# EAGLE library part SPX3819S-L_TR (library SPX3819S-L_TR)
LDO Voltage Regulators 500mA LOW NOISE LDO Source: Datasheet <https://www.maxlinear.com/document?id=22106>
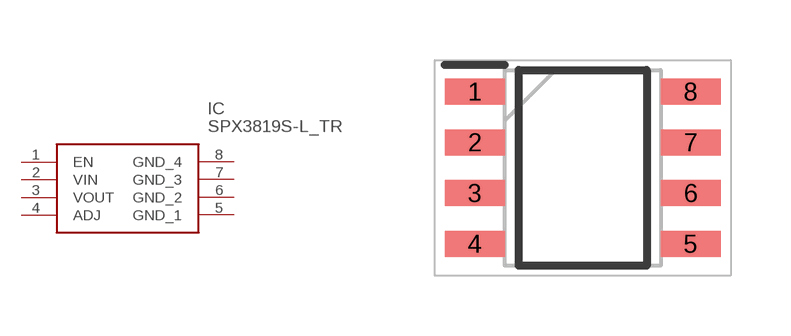
[diagram p0: symbol with the pads of SOIC127P600X175-8N; footprint SOIC127P600X175-8N]

Designator prefix IC

## SPX3819S-L_TR (Description: LDO Voltage Regulators 500mA LOW NOISE LDO; Height: 1.75mm; Manufacturer_Name: MaxLinear, Inc.; Manufacturer_Part_Number: SPX3819S-L/TR; Mouser_Part_Number: 701-SPX3819S-L/TR; Mouser_Price-Stock: https://www.mouser.co.uk/ProductDetail/MaxLinear/SPX3819S-L-TR?qs=S%2FCBhQS5rCrzMX4peN58gQ%3D%3D)  [SOIC127P600X175-8N]
1  EN
2  VIN
3  VOUT
4  ADJ
5  GND_1
6  GND_2
7  GND_3
8  GND_4

## Footprint SOIC127P600X175-8N (pad centres in mm)
NSOIC8
smd 1.5 x 0.65: 1 -2.7,1.905; 2 -2.7,0.635; 3 -2.7,-0.635; 4 -2.7,-1.905; 5 2.7,-1.905; 6 2.7,-0.635; 7 2.7,0.635; 8 2.7,1.905